# EAGLE library part F30BUS_FEMALE (library Atari)
F30 BUS FEMALE (50+30pins)
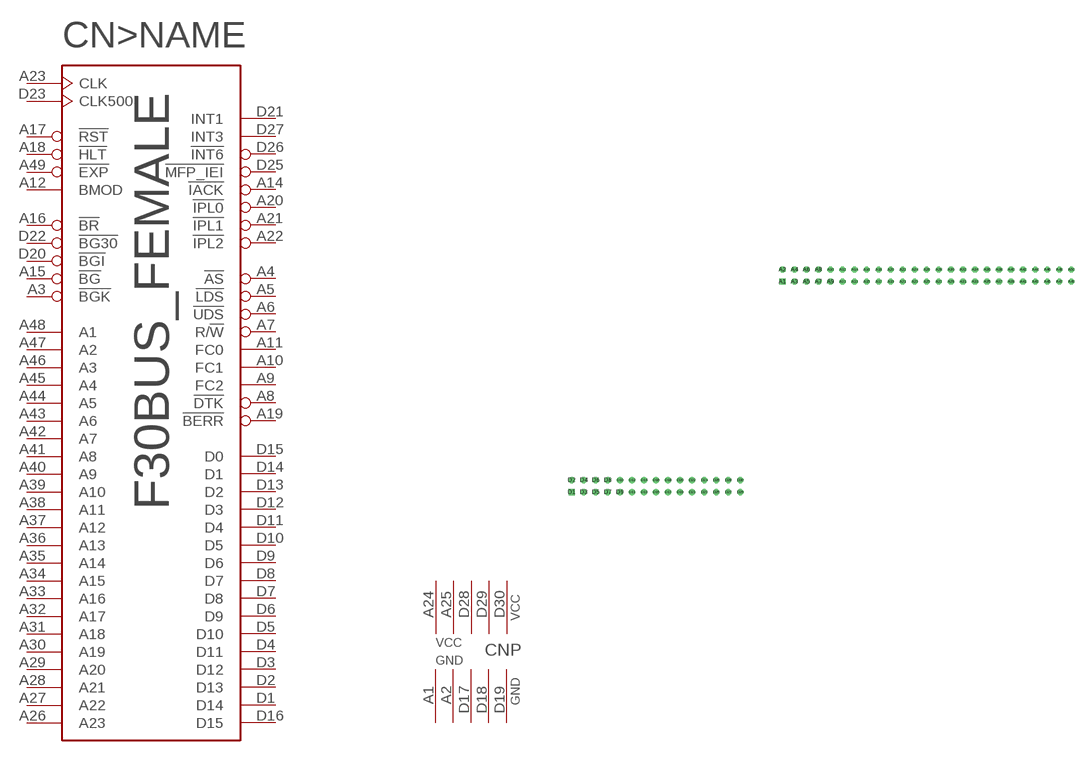
[diagram p0: symbol with the pads of HE14_FEMALE_(50+30PINS); footprint HE14_FEMALE_(50+30PINS)]

Designator prefix CN; gates >NAME=F30BUS_FEMALE P=5PWR5GND

## F30BUS_FEMALE  [HE14_FEMALE_(50+30PINS)]
A1  P:GND  pwr
A2  P:GND  pwr
A3  >NAME:!BGK
A4  >NAME:!AS
A5  >NAME:!LDS
A6  >NAME:!UDS
A7  >NAME:R/!W
A8  >NAME:!DTK
A9  >NAME:FC2
A10  >NAME:FC1
A11  >NAME:FC0
A12  >NAME:BMOD  hiz
A14  >NAME:!IACK  out
A15  >NAME:!BG  out
A16  >NAME:!BR
A17  >NAME:!RST  out
A18  >NAME:!HLT
A19  >NAME:!BERR  out
A20  >NAME:!IPL0  out
A21  >NAME:!IPL1  out
A22  >NAME:!IPL2  out
A23  >NAME:CLK  out
A24  P:VCC  pwr
A25  P:VCC  pwr
A26  >NAME:A23
A27  >NAME:A22
A28  >NAME:A21
A29  >NAME:A20
A30  >NAME:A19
A31  >NAME:A18
A32  >NAME:A17
A33  >NAME:A16
A34  >NAME:A15
A35  >NAME:A14
A36  >NAME:A13
A37  >NAME:A12
A38  >NAME:A11
A39  >NAME:A10
A40  >NAME:A9
A41  >NAME:A8
A42  >NAME:A7
A43  >NAME:A6
A44  >NAME:A5
A45  >NAME:A4
A46  >NAME:A3
A47  >NAME:A2
A48  >NAME:A1
A49  >NAME:!EXP  hiz
D1  >NAME:D14
D2  >NAME:D13
D3  >NAME:D12
D4  >NAME:D11
D5  >NAME:D10
D6  >NAME:D9
D7  >NAME:D8
D8  >NAME:D7
D9  >NAME:D6
D10  >NAME:D5
D11  >NAME:D4
D12  >NAME:D3
D13  >NAME:D2
D14  >NAME:D1
D15  >NAME:D0
D16  >NAME:D15
D17  P:GND  pwr
D18  P:GND  pwr
D19  P:GND  pwr
D20  >NAME:!BGI  in
D21  >NAME:INT1  hiz
D22  >NAME:!BG30  out
D23  >NAME:CLK500  out
D25  >NAME:!MFP_IEI  hiz
D26  >NAME:!INT6  hiz
D27  >NAME:INT3  hiz
D28  P:VCC  pwr
D29  P:VCC  pwr
D30  P:VCC  pwr

## Footprint HE14_FEMALE_(50+30PINS) (pad centres in mm)
HE14 Female (50+30pins)
drill 0.813 square: A1 -1.27,-1.27; D1 -45.72,-45.72
drill 0.813: A2 -1.27,1.27; A3 1.27,-1.27; A4 1.27,1.27; A5 3.81,-1.27; A6 3.81,1.27; A7 6.35,-1.27; A8 6.35,1.27; A9 8.89,-1.27; A10 8.89,1.27; A11 11.43,-1.27; A12 11.43,1.27; A13 13.97,-1.27; A14 13.97,1.27; A15 16.51,-1.27; A16 16.51,1.27; A17 19.05,-1.27; A18 19.05,1.27; A19 21.59,-1.27; A20 21.59,1.27; A21 24.13,-1.27; A22 24.13,1.27; A23 26.67,-1.27; A24 26.67,1.27; A25 29.21,-1.27; A26 29.21,1.27; A27 31.75,-1.27; A28 31.75,1.27; A29 34.29,-1.27; A30 34.29,1.27; A31 36.83,-1.27; A32 36.83,1.27; A33 39.37,-1.27; A34 39.37,1.27; A35 41.91,-1.27; A36 41.91,1.27; A37 44.45,-1.27; A38 44.45,1.27; A39 46.99,-1.27; A40 46.99,1.27; A41 49.53,-1.27; A42 49.53,1.27; A43 52.07,-1.27; A44 52.07,1.27; A45 54.61,-1.27; A46 54.61,1.27; A47 57.15,-1.27; A48 57.15,1.27; A49 59.69,-1.27; A50 59.69,1.27; D2 -45.72,-43.18; D3 -43.18,-45.72; D4 -43.18,-43.18; D5 -40.64,-45.72; D6 -40.64,-43.18; D7 -38.1,-45.72; D8 -38.1,-43.18; D9 -35.56,-45.72; D10 -35.56,-43.18; D11 -33.02,-45.72; D12 -33.02,-43.18; D13 -30.48,-45.72; D14 -30.48,-43.18; D15 -27.94,-45.72; D16 -27.94,-43.18; D17 -25.4,-45.72; D18 -25.4,-43.18; D19 -22.86,-45.72; D20 -22.86,-43.18; D21 -20.32,-45.72; D22 -20.32,-43.18; D23 -17.78,-45.72; D24 -17.78,-43.18; D25 -15.24,-45.72; D26 -15.24,-43.18; D27 -12.7,-45.72; D28 -12.7,-43.18; D29 -10.16,-45.72; D30 -10.16,-43.18